# Altium schematic symbol library AD8402AR.SchLib: 1 symbol
Pins are listed as number, name and electrical type; pins without a type are passive.

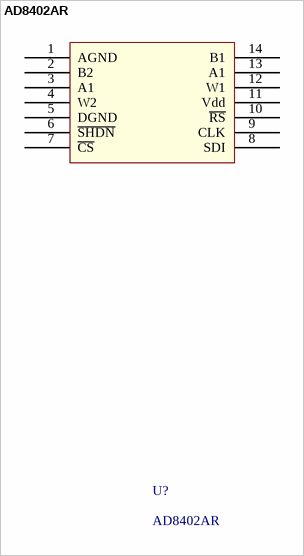
[diagram p0: symbol AD8402AR]

## AD8402AR
designator U?
pins: 1 AGND (power), 2 B2, 3 A1, 4 W2, 5 DGND, 6 ~{SHDN}, 7 ~{CS}, 8 SDI, 9 CLK, 10 ~{RS}, 11 Vdd (power), 12 W1, 13 A1, 14 B1